# EAGLE library part PIC16F18325 (library joakim)
14-Pin, Flash-Based 8-Bit CMOS Microcontroller
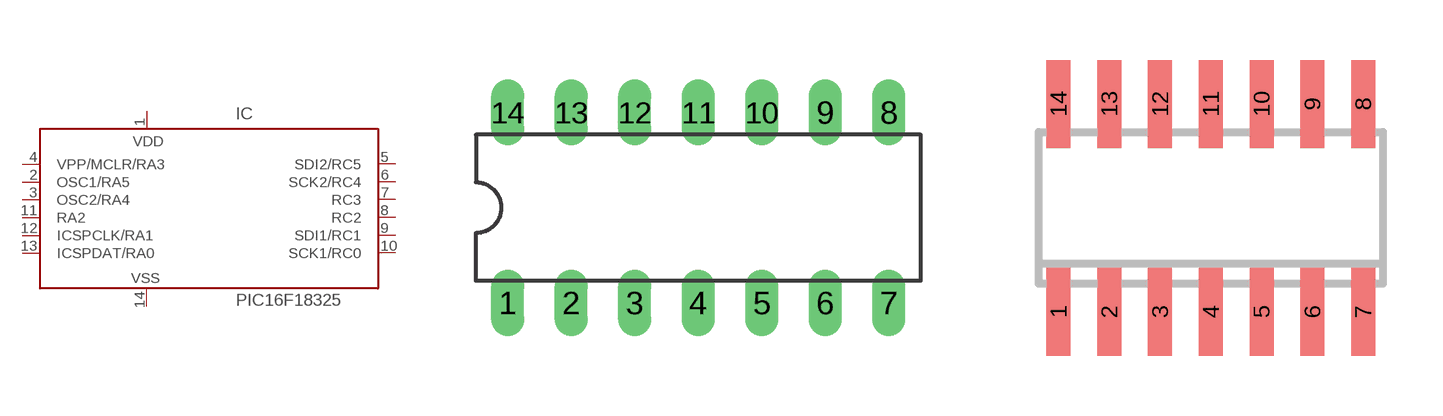
[diagram p20: symbol with the pads of DIL14J; footprints DIL14J, SO14J]

Designator prefix IC

## PIC16F18325P (MF: MICROCHIP; MPN: PIC16F676-I/P; OC_FARNELL: 9760512; OC_NEWARK: 54K2829)  [DIL14J]
1  VDD  pwr
2  OSC1/RA5
3  OSC2/RA4
4  VPP/MCLR/RA3  in
5  SDI2/RC5
6  SCK2/RC4
7  RC3
8  RC2
9  SDI1/RC1
10  SCK1/RC0
11  RA2
12  ICSPCLK/RA1
13  ICSPDAT/RA0
14  VSS  pwr

## PIC16F18325SL (MF: MICROCHIP; MPN: PIC16F676-I/SL; OC_FARNELL: 9760520; OC_NEWARK: 92C4557)  [SO14J]
Pads as for DIL14J

## PIC16F18325ST (MF: MICROCHIP; MPN: PIC16F676-E/ST; OC_FARNELL: 9760539; OC_NEWARK: 92C4552)  [TSSOP14J]
Pads as for DIL14J

## Footprint DIL14J (pad centres in mm)
Dual In Line Package
drill 0.813 long: 1 -7.62,-3.81; 2 -5.08,-3.81; 3 -2.54,-3.81; 4 0,-3.81; 5 2.54,-3.81; 6 5.08,-3.81; 7 7.62,-3.81; 8 7.62,3.81; 9 5.08,3.81; 10 2.54,3.81; 11 0,3.81; 12 -2.54,3.81; 13 -5.08,3.81; 14 -7.62,3.81

## Footprint SO14J (pad centres in mm)
Small Outline Narrow Plastic Gull Wing 150-mil body, package type SL
smd 0.6 x 2.2: 1 -3.81,-2.6; 2 -2.54,-2.6; 3 -1.27,-2.6; 4 0,-2.6; 5 1.27,-2.6; 6 2.54,-2.6; 7 3.81,-2.6; 8 3.81,2.6; 9 2.54,2.6; 10 1.27,2.6; 11 0,2.6; 12 -1.27,2.6; 13 -2.54,2.6; 14 -3.81,2.6

## Footprint TSSOP14J (pad centres in mm)
14-Lead Plastic Thin Shrink Small Outline (ST) - 4.4 mm Body TSSOP Source: http://ww1.microchip.com/downloads/en/DeviceDoc/40039E.pdf
smd 0.35 x 1: 1 -1.95,-2.825; 2 -1.3,-2.825; 3 -0.65,-2.825; 4 0,-2.825; 5 0.65,-2.825; 6 1.3,-2.825; 7 1.95,-2.825; 8 1.95,2.825; 9 1.3,2.825; 10 0.65,2.825; 11 0,2.825; 12 -0.65,2.825; 13 -1.3,2.825; 14 -1.95,2.825